# EAGLE library part ARDUINO_PRO_MINI_ARDUIN_PRO_MINI_V4 (library Mini-Lora_v2_2)
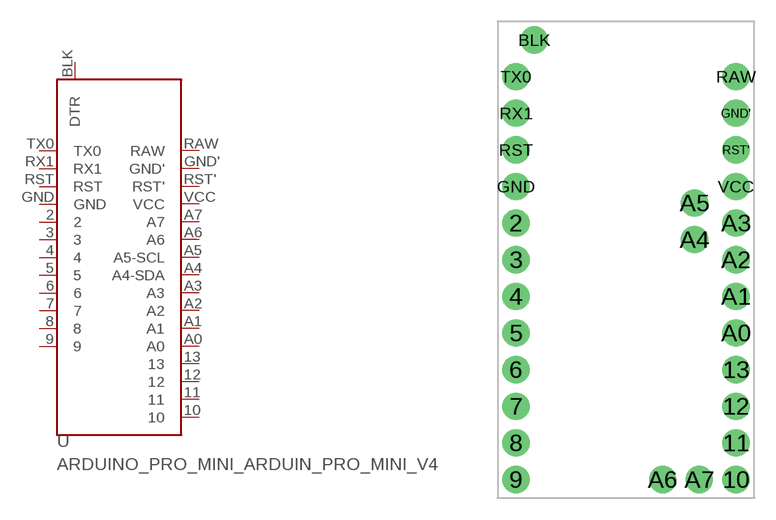
[diagram p0: symbol with the pads of ARDUINO_PRO_MINI_ARDUINO_PRO_MINI_V4; footprint ARDUINO_PRO_MINI_ARDUINO_PRO_MINI_V4]

Designator prefix -

## ARDUINO_PRO_MINI_ARDUIN_PRO_MINI_V4  [ARDUINO_PRO_MINI_ARDUINO_PRO_MINI_V4]
2  2
3  3
4  4
5  5
6  6
7  7
8  8
9  9
10  10
11  11
12  12
13  13
A0  A0
A1  A1
A2  A2
A3  A3
A4  A4-SDA
A5  A5-SCL
A6  A6
A7  A7
BLK  DTR
GND  GND
GND'  GND'
RAW  RAW
RST  RST
RST'  RST'
RX1  RX1
TX0  TX0
VCC  VCC

## Footprint ARDUINO_PRO_MINI_ARDUINO_PRO_MINI_V4 (pad centres in mm)
drill 1.016 pad 1.88: 2 -7.62,1.27; 3 -7.62,-1.27; 4 -7.62,-3.81; 5 -7.62,-6.35; 6 -7.62,-8.89; 7 -7.62,-11.43; 8 -7.62,-13.97; 9 -7.62,-16.51; 10 7.62,-16.51; 11 7.62,-13.97; 12 7.62,-11.43; 13 7.62,-8.89; A0 7.62,-6.35; A1 7.62,-3.81; A2 7.62,-1.27; A3 7.62,1.27; A4 4.75,0.127; A5 4.75,2.667; A6 2.54,-16.51; A7 5.08,-16.51; BLK -6.35,13.97; GND -7.62,3.81; GND' 7.62,8.89; RAW 7.62,11.43; RST -7.62,6.35; RST' 7.62,6.35; RX1 -7.62,8.89; TX0 -7.62,11.43; VCC 7.62,3.81